# Altium schematic symbol library Schematic_library.SchLib: 19 symbols
Pins are listed as number, name and electrical type; pins without a type are passive.

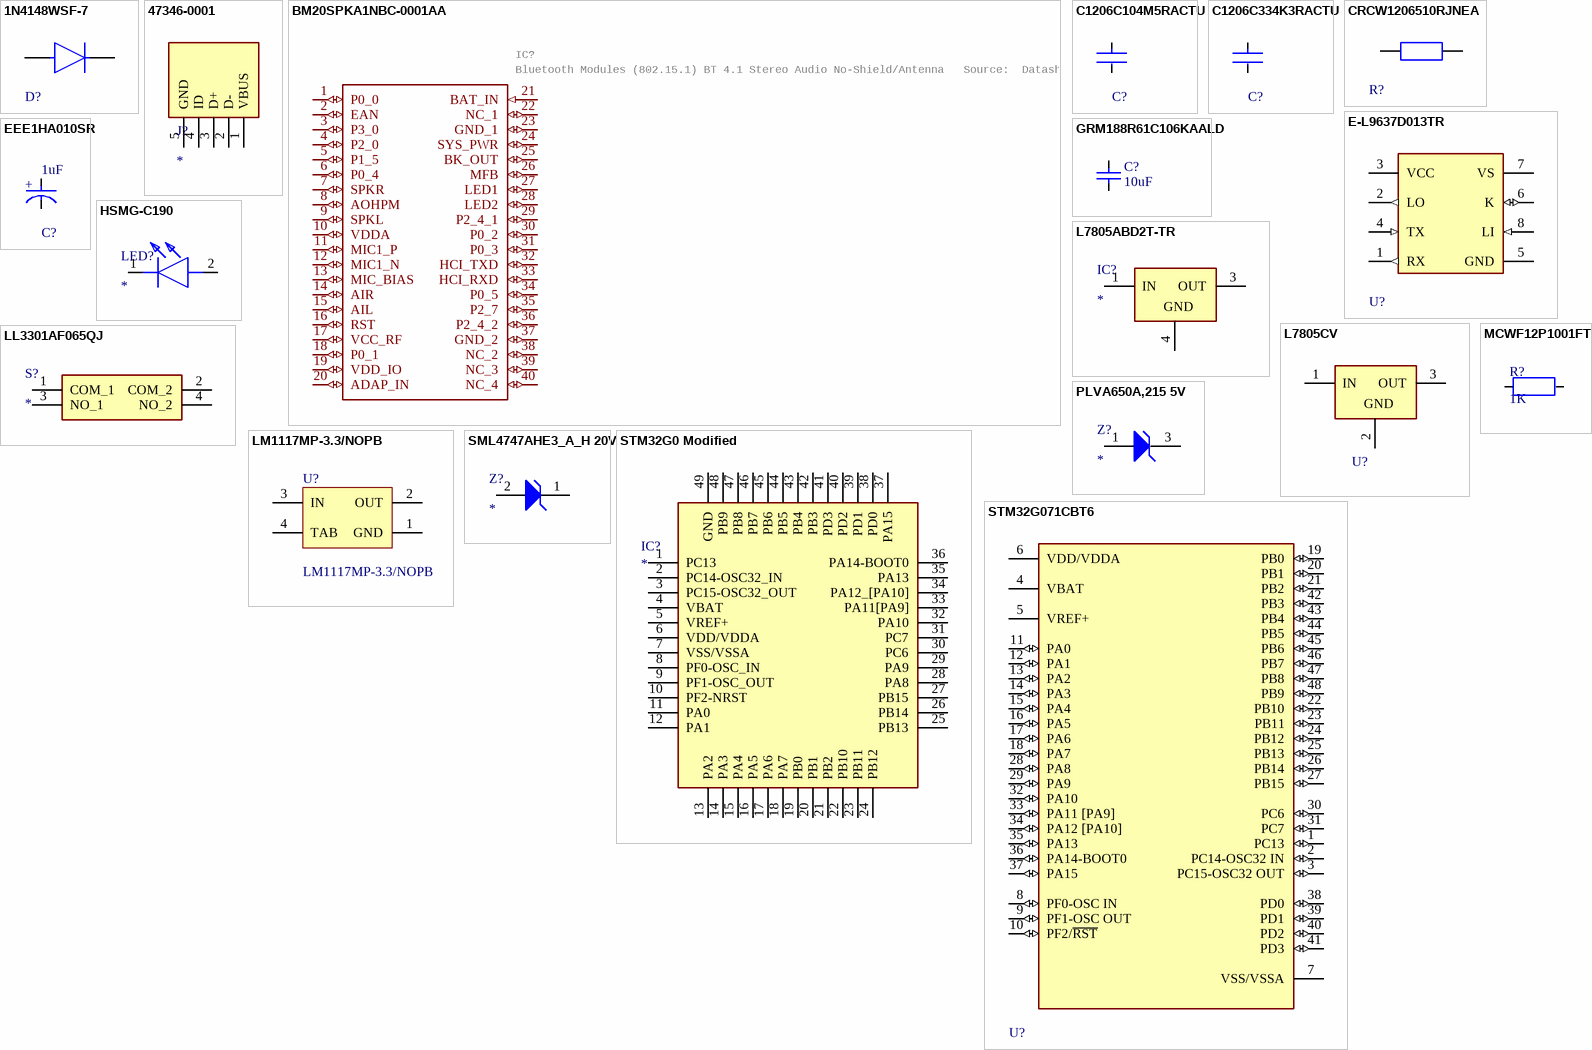
[diagram p0: symbols 1N4148WSF-7 to STM32G071CBT6]

## 1N4148WSF-7
designator D?  (value not drawn)
footprint Diodes_Inc._SOD323F_MFG
pins: 1 C, 2 A

## 47346-0001
designator J?
Connector; Manufacturer_Name: Molex; Manufacturer_Part_Number: 47346-0001; Datasheet Link: http://www.molex.com/pdm_docs/sd/473460001_sd.pdf; Mouser Part Number: 538-47346-0001; Mouser Price/Stock: https://www.mouser.co.uk/ProductDetail/Molex/47346-0001?qs=c2CV6XM0DweJBWaSeyWeCw%3D%3D
footprint 47346-0001
pins: 1 VBUS, 2 D-, 3 D+, 4 ID, 5 GND

## BM20SPKA1NBC-0001AA
designator IC?, comment Bluetooth Modules (802.15.1) BT 4.1 Stereo Audio No-Shield/Antenna   Source:  Datasheet
Manufacturer_Name: Microchip; GateName_1: G$1; SymbolName_1: BM20SPKA1NBC-0001AA; LibraryName: BM20SPKA1NBC-0001AA; DeviceSetName: BM20SPKA1NBC-0001AA; Package: BM20SPKA1NBC0001AA; Manufacturer_Part_Number: BM20SPKA1NBC-0001AA; Mouser_Part_Number: 579-SPKA1NBC-0001AA; Mouser_Price-Stock: https://www.mouser.co.uk/ProductDetail/Microchip-Technology/BM20SPKA1NBC-0001AA?qs=uus7iwvxYD8HqvnWsd76VQ%3D%3D; Arrow_Part_Number: BM20SPKA1NBC-0001AA; Arrow_Price-Stock: https://www.arrow.com/en/products/bm20spka1nbc-0001aa/microchip-technology; Height: 2.5mm
footprint BM20SPKA1NBC0001AA
footprint BM20SPKA1NBC0001AA
pins: 1 P0_0 (io), 2 EAN (io), 3 P3_0 (io), 4 P2_0 (io), 5 P1_5 (io), 6 P0_4 (io), 7 SPKR (io), 8 AOHPM (io), 9 SPKL (io), 10 VDDA (io), 11 MIC1_P (io), 12 MIC1_N (io), 13 MIC_BIAS (io), 14 AIR (io), 15 AIL (io), 16 RST (io), 17 VCC_RF (io), 18 P0_1 (io), 19 VDD_IO (io), 20 ADAP_IN (io), 21 BAT_IN (in), 22 NC_1 (io), 23 GND_1 (io), 24 SYS_PWR (io), 25 BK_OUT (io), 26 MFB (io), 27 LED1 (io), 28 LED2 (io), 29 P2_4_1 (io), 30 P0_2 (io), 31 P0_3 (io), 32 HCI_TXD (io), 33 HCI_RXD (io), 34 P0_5 (io), 35 P2_7 (io), 36 P2_4_2 (io), 37 GND_2 (io), 38 NC_2 (io), 39 NC_3 (io), 40 NC_4 (io)

## C1206C104M5RACTU
designator C?  (value not drawn)
Kemet C1206, 100nF, 50VDC, X7R
footprint KEMET_C1206C-EB_IPC_B
pins: 1, 2

## C1206C334K3RACTU
designator C?  (value not drawn)
Kemet C1206, 330nF, 25VDC, X7R
footprint KEMET_C1206C-EB_IPC_B
pins: 1, 2

## CRCW1206510RJNEA
designator R?  (value not drawn)
Resistor 1206, 510ohm, 5%, 1/4W
footprint Vishay_CRCW1206-e3_IPC_B
pins: 1, 2

## E-L9637D013TR
designator U?  (value not drawn)
footprint STMicroelectronics_SO8-0016023_IPC_A
pins: 1 RX (out), 2 LO (out), 3 VCC (power), 4 TX (in), 5 GND (power), 6 K (io), 7 VS (power), 8 LI (in)

## EEE1HA010SR
designator C?, comment 1uF
1uF electrolytic capacitor
footprint Panasonic_SB_MFG
pins: 1 C, 2 A
text: +

## GRM188R61C106KAALD
designator C?, comment 10uF
CAP MLCC, 10uF, 16V, 0603 [1608 Metric], ±10%, X5R; Manufacturer: MURATA; Manufacturer Part Number: GRM188R61C106KAALD; Value: 10uF; Package: 0603 [1608 Metric]; Supplier 1: Farnell; Supplier Part Number 1: 2611923; ComponentLink1Description: Datasheet; ComponentLink1URL: https://4donline.ihs.com/images/VipMasterIC/IC/MURE/MURE-S-A0004349797/MURE-S-A0004352506-1.pdf?hkey=6D3A4C79FDBF58556ACFDE234799DDF0; Voltage: 16V; Tolerance: ± 10%; Dielectric: X5R; Mounting: SMD; Part Type: MLCC
footprint CAPC1608N (Chip Capacitor, Body 1.6x0.8mm, Height 0.55mm, IPC Medium Density)
pins: 1, 2

## HSMG-C190
designator LED?
LED; Manufacturer_Name: Avago Technologies; Manufacturer_Part_Number: HSMG-C190; Datasheet Link: https://datasheet.datasheetarchive.com/originals/distributors/SFDatasheet-4/sf-00083853.pdf; Height: 0.9mm; Mouser2 Part Number: 630-HSMG-C190; Mouser2 Price/Stock: https://www.mouser.com/Search/Refine.aspx?Keyword=630-HSMG-C190
footprint LEDC1608X90N
pins: 1 K, 2 A

## L7805ABD2T-TR
designator IC?
Integrated Circuit; Manufacturer_Name: STMicroelectronics; Manufacturer_Part_Number: L7805ABD2T-TR; Description: Linear Voltage Regulators 5.0V 1.0A Positive; Datasheet Link: https://www.st.com/resource/en/datasheet/l78.pdf
footprint D2PAK-STB35NF10T4
pins: 1 IN, 3 OUT, 4 GROUND
text: GND

## L7805CV
designator U?  (value not drawn)
footprint STMicroelectronics_TO-220-3_0
pins: 1 IN, 2 GROUND, 3 OUT
text: GND

## LL3301AF065QJ
designator S?
Switch; Manufacturer_Name: E-Switch; Manufacturer_Part_Number: LL3301AF065QJ; Datasheet Link: https://media.digikey.com/pdf/Data%20Sheets/E-Switch%20PDFs/LL3301AF065QJ.pdf; Height: 7.3mm
footprint LL3301FF065QJ
pins: 1 COM_1, 2 COM_2, 3 NO_1, 4 NO_2

## LM1117MP-3.3/NOPB
designator U?
800mA Low-Dropout Linear Regulator, 4-pin SOT-223, Pb-Free; Manufacturer: National Semiconductor; PackageTopMarking: XYTT*N05A; CompType: LDO IC; PowerWise: N; ComponentLink1Description: LM1117 Datasheet; ComponentLink2Description: LM1117 Web Page; DatasheetVersion: Apr-2006; ComponentLink3URL: http://www.national.com/packaging/folders/mp04a.html; ComponentLink1URL: http://www.national.com/ds/LM/LM1117.pdf; ComponentLink2URL: http://www.national.com/pf/LM/LM1117.html; Code_JEDEC: TO-261-AA; RevisionNote: Component URLs added; Code_IPC: SOT223-4; ComponentLink3Description: MP04A Package Page; PackageVersion: revB, Apr-2003; PackageDescription: Molded SOT-223, 6.50 x 3.56 x 1.6mm Body, 4 Lead, 2.3mm Pitch; PinCount: 4; RoHS: Y; PackageReference: MP04A; PartNumber: LM1117MP-3.3/NOPB
footprint MP04A_N (SOT223, 4-Leads, Body 6.5x3.5mm, Pitch 2.3mm, Lead Span 7mm, IPC Medium Density)
footprint MP04A_L
footprint MP04A_M
pins: 1 GND (power), 2 OUT (power), 3 IN (power), 4 TAB (power)

## MCWF12P1001FTL
designator R?, comment 1K
RES 1K, ±1%, 500mW, 200V, 1206 [3216 Metric], Thick Film; Manufacturer: MULTICOMP PRO; Manufacturer Part Number: MCWF12P1001FTL; Temperature Coefficient: ± 100ppm/°C; Value: 1K; Supplier 1: Farnell; Supplier Part Number 1: 2694437; Tolerance: ± 1%; Power: 500mW; Voltage: 200V; Package: 1206 [3216 Metric]; Part Type: Thick Film; ComponentLink1Description: Datasheet; ComponentLink1URL: http://www.farnell.com/datasheets/2864033.pdf; Mounting: SMD
footprint RESC3216N (Chip Resistor, Body 3.2x1.6mm, IPC Medium Density)
pins: 1, 2
1 alternate drawing of the same symbol

## PLVA650A,215 5V
designator Z?
Zener Diode; Manufacturer_Name: Nexperia; Manufacturer_Part_Number: PLVA650A,215; Datasheet Link: http://assets.nexperia.com/documents/data-sheet/PLVA6XXA_SERIES.pdf; Height: 1.1mm
footprint SOT95P230X110-3N
pins: 1 ANODE, 3 CATHODE

## SML4747AHE3_A_H 20V
designator Z?
Zener Diode; Manufacturer_Name: Vishay; Manufacturer_Part_Number: SML4747AHE3_A/H; Height: 2.29mm
footprint DIONM5127X229N
pins: 1 K, 2 A

## STM32G0 Modified
designator IC?
Integrated Circuit; Manufacturer_Name: STMicroelectronics; Manufacturer_Part_Number: STM32G071CBU6; Datasheet Link: https://www.st.com/resource/en/datasheet/stm32g071cb.pdf; Height: 0.6mm; Mouser Part Number: 511-STM32G071CBU6; Mouser Price/Stock: https://www.mouser.co.uk/ProductDetail/STMicroelectronics/STM32G071CBU6?qs=PqoDHHvF648BGloVMMKm2g%3D%3D; Arrow Part Number: STM32G071CBU6; Arrow Price/Stock: https://www.arrow.com/en/products/stm32g071cbu6/stmicroelectronics
footprint QFN50P700X700X60-49N-D
pins: 1 PC13, 2 PC14-OSC32_IN, 3 PC15-OSC32_OUT, 4 VBAT, 5 VREF+, 6 VDD/VDDA, 7 VSS/VSSA, 8 PF0-OSC_IN, 9 PF1-OSC_OUT, 10 PF2-NRST, 11 PA0, 12 PA1, 13 PA2, 14 PA3, 15 PA4, 16 PA5, 17 PA6, 18 PA7, 19 PB0, 20 PB1, 21 PB2, 22 PB10, 23 PB11, 24 PB12, 25 PB13, 26 PB14, 27 PB15, 28 PA8, 29 PA9, 30 PC6, 31 PC7, 32 PA10, 33 PA11[PA9], 34 PA12_[PA10], 35 PA13, 36 PA14-BOOT0, 37 PA15, 38 PD0, 39 PD1, 40 PD2, 41 PD3, 42 PB3, 43 PB4, 44 PB5, 45 PB6, 46 PB7, 47 PB8, 48 PB9, 49 GND

## STM32G071CBT6
designator U?  (value not drawn)
footprint STMicroelectronics_LQFP48-5B_IPC_A
pins: 1 PC13 (io), 2 PC14-OSC32 IN (io), 3 PC15-OSC32 OUT (io), 4 VBAT (power), 5 VREF+ (power), 6 VDD/VDDA (power), 7 VSS/VSSA (power), 8 PF0-OSC IN (io), 9 PF1-OSC OUT (io), 10 PF2/~{RST} (io), 11 PA0 (io), 12 PA1 (io), 13 PA2 (io), 14 PA3 (io), 15 PA4 (io), 16 PA5 (io), 17 PA6 (io), 18 PA7 (io), 19 PB0 (io), 20 PB1 (io), 21 PB2 (io), 22 PB10 (io), 23 PB11 (io), 24 PB12 (io), 25 PB13 (io), 26 PB14 (io), 27 PB15 (io), 28 PA8 (io), 29 PA9 (io), 30 PC6 (io), 31 PC7 (io), 32 PA10 (io), 33 PA11 [PA9] (io), 34 PA12 [PA10] (io), 35 PA13 (io), 36 PA14-BOOT0 (io), 37 PA15 (io), 38 PD0 (io), 39 PD1 (io), 40 PD2 (io), 41 PD3 (io), 42 PB3 (io), 43 PB4 (io), 44 PB5 (io), 45 PB6 (io), 46 PB7 (io), 47 PB8 (io), 48 PB9 (io)